# EAGLE library part TPS24750 (library misc)
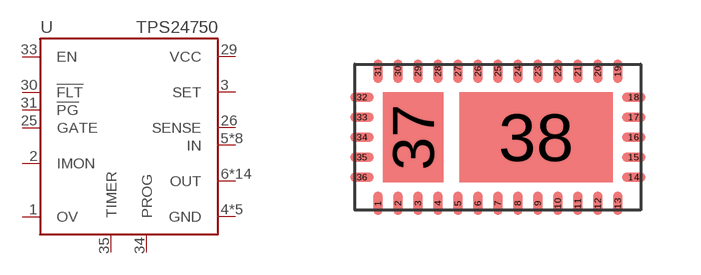
[diagram p4: symbol with the pads of R-PVQFN-N36; footprint R-PVQFN-N36]

Designator prefix -

## TPS24750  [R-PVQFN-N36]
1  OV
2  IMON
3  SET
4  GND
5  IN
6  OUT
7  OUT
8  OUT
9  OUT
10  OUT
11  OUT
12  OUT
13  OUT
14  IN
15  IN
16  IN
17  IN
18  IN
19  OUT
20  OUT
21  OUT
22  OUT
23  OUT
24  OUT
25  GATE
26  SENSE
27  IN
28  GND
29  VCC
30  !FLT!
31  !PG!
32  GND
33  EN
34  PROG
35  TIMER
36  GND
37  GND
38  IN

## Footprint R-PVQFN-N36 (pad centres in mm)
smd 0.24 x 0.6: 1 -3,-1.65; 2 -2.5,-1.65; 3 -2,-1.65; 4 -1.5,-1.65; 5 -1,-1.65; 6 -0.5,-1.65; 7 0,-1.65; 8 0.5,-1.65; 9 1,-1.65; 10 1.5,-1.65; 11 2,-1.65; 12 2.5,-1.65; 13 3,-1.65; 19 3,1.65; 20 2.5,1.65; 21 2,1.65; 22 1.5,1.65; 23 1,1.65; 24 0.5,1.65; 25 0,1.65; 26 -0.5,1.65; 27 -1,1.65; 28 -1.5,1.65; 29 -2,1.65; 30 -2.5,1.65; 31 -3,1.65
smd 0.6 x 0.24: 14 3.4,-1; 15 3.4,-0.5; 16 3.4,0; 17 3.4,0.5; 18 3.4,1; 32 -3.4,1; 33 -3.4,0.5; 34 -3.4,0; 35 -3.4,-0.5; 36 -3.4,-1
smd 1.514 x 2.25: 37 -2.118,0
smd 3.836 x 2.25: 38 0.957,0